# EAGLE library part 1-1462037-4 (library Relays)
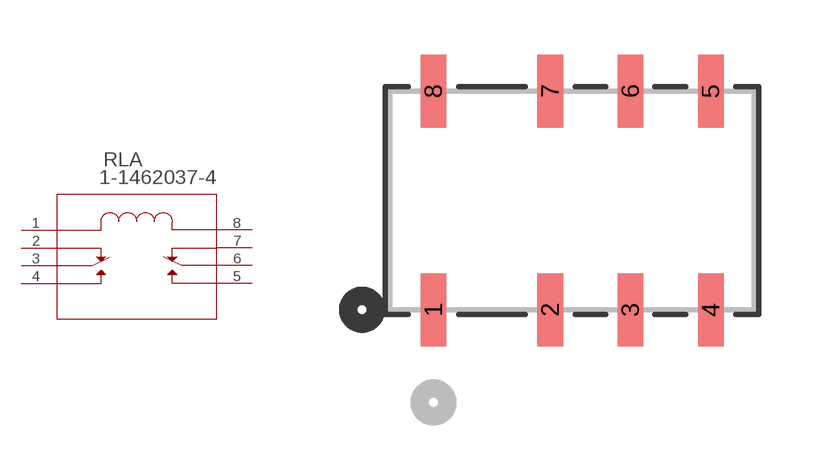
[diagram p60: symbol with the pads of RELAY8_1-1462037-4; footprint RELAY8_1-1462037-4]

Designator prefix RLA

## 1-1462037-4 (BUILT_BY: EMA_Kyle; CATEGORY: Signal Relays; CONTACT_ARRANGEMENT: 2 Form C (CO); COPYRIGHT: Copyright (C) 2018 Accelerated Designs. All rights reserved; DATASHEET_USED: https://www.te.com/commerce/DocumentDelivery/DDEController?Action=showdoc&DocId=Specification+Or+Standard%7F108-98001%7FW5%7Fpdf%7FEnglish%7FENG_SS_108-98001_W5.pdf%7F1-1462037-6; DESCRIPTION: IM03GR=IM Relay 140 mW 5V; MANUFACTURER_PART_NUMBER: IM03GR; MAXIMUM_SWITCHING_CURRENT: -; MAXIMUM_SWITCHING_VOLTAGE: -; PART_STATUS: active; PRODUCT_TYPE: Relay; RELAY_TYPE: IM Relay; SERIES: Axicom IM; TE_PART_NUMBER: IM03GR (1-1462037-4); VENDOR: TE Connectivity)  [RELAY8_1-1462037-4]
1  1  pas
2  2  pas
3  3  pas
4  4  pas
5  5  pas
6  6  pas
7  7  pas
8  8  pas

## Footprint RELAY8_1-1462037-4 (pad centres in mm)
smd 0.7 x 2: 1 0,0; 2 3.2,0; 3 5.4,0; 4 7.6,0; 5 7.6,6; 6 5.4,6; 7 3.2,6; 8 0,6